# Altium footprint library RSX_Inductors.PcbLib: 1 footprints
Each footprint in its own frame and in the unit in brackets; x right, y up, seen from the top. Pads: shape width x height; smd on the part's side, far side on the other; paste and mask are expansions set on the pad; w line width, h text height; cw(c..) or ccw(c..) is an arc to the next point about the centre after c.
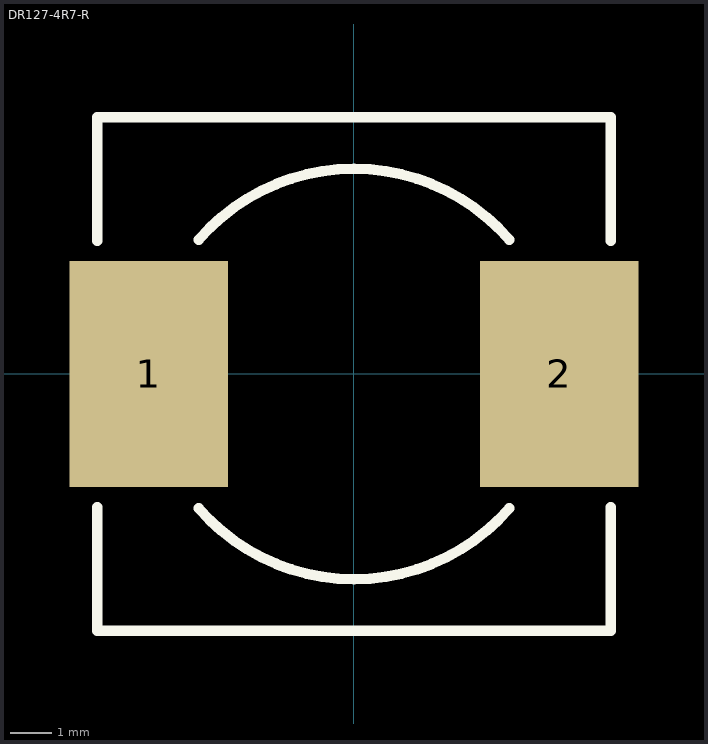
[diagram p0: the footprint, top view; thin cyan lines are the x and y axes]

## DR127-4R7-R [mm] "Fixed Inductors 4.7uH 16.5A 0.0092ohms"
pads (2):
  rect 3.85x5.5 smd: 1(-5,0) 2(5,0)
Top Overlay:
  lines w0.254: -6.25,-3.25 -6.25,-6.25 0,-6.25 6.25,-6.25 6.25,-3.25 ; -6.25,3.25 -6.25,6.25 0,6.25 6.25,6.25 6.25,3.25 ; -3.778,-3.275 ccw(c0,0) 3.778,-3.275 ; -3.778,3.275 cw(c0,0) 3.778,3.275
3D body: height 8, standoff 0, extent -6.35,-6.223 6.35,6.223